# EAGLE library part ROOT1.H1.BOTH.PASSTHROUGH (library anomalousmaker)
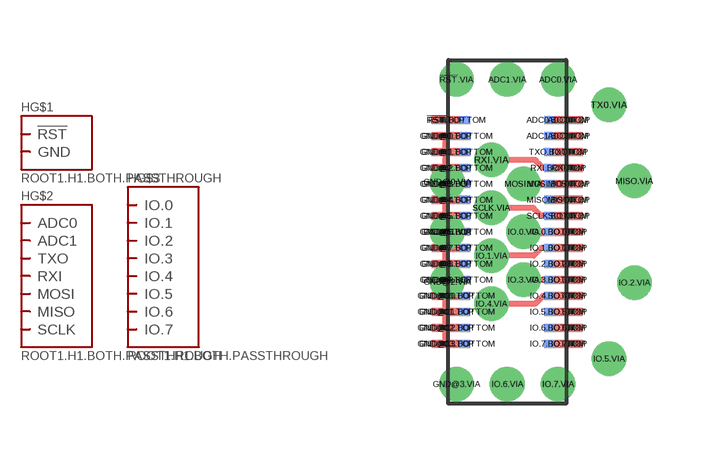
[diagram p0: symbol with the pads of ROOT1.H1.BOTH; footprint ROOT1.H1.BOTH]

Designator prefix H; gates G$1=ROOT1.H1.PWR G$2=ROOT1.H1.SERIAL G$3=ROOT1.H1.IO.8

## ROOT1.H1.BOTH.PASSTHROUGH  [ROOT1.H1.BOTH]
!RST!.BOTTOM  G$1:!RST!
!RST!.TOP  G$1:!RST!
!RST!.VIA  G$1:!RST!
ADC0.BOTTOM  G$2:ADC0
ADC0.TOP  G$2:ADC0
ADC0.VIA  G$2:ADC0
ADC1.BOTTOM  G$2:ADC1
ADC1.TOP  G$2:ADC1
ADC1.VIA  G$2:ADC1
GND@0.BOTTOM  G$1:GND
GND@0.TOP  G$1:GND
GND@0.VIA  G$1:GND
GND@1.BOTTOM  G$1:GND
GND@1.TOP  G$1:GND
GND@1.VIA  G$1:GND
GND@2.BOTTOM  G$1:GND
GND@2.TOP  G$1:GND
GND@2.VIA  G$1:GND
GND@3.BOTTOM  G$1:GND
GND@3.TOP  G$1:GND
GND@3.VIA  G$1:GND
GND@4.BOTTOM  G$1:GND
GND@4.TOP  G$1:GND
GND@5.BOTTOM  G$1:GND
GND@5.TOP  G$1:GND
GND@6.BOTTOM  G$1:GND
GND@6.TOP  G$1:GND
GND@7.BOTTOM  G$1:GND
GND@7.TOP  G$1:GND
GND@8.BOTTOM  G$1:GND
GND@8.TOP  G$1:GND
GND@9.BOTTOM  G$1:GND
GND@9.TOP  G$1:GND
GND@10.BOTTOM  G$1:GND
GND@10.TOP  G$1:GND
GND@11.BOTTOM  G$1:GND
GND@11.TOP  G$1:GND
GND@12.BOTTOM  G$1:GND
GND@12.TOP  G$1:GND
GND@13.BOTTOM  G$1:GND
GND@13.TOP  G$1:GND
IO.0.BOTTOM  G$3:IO.0
IO.0.TOP  G$3:IO.0
IO.0.VIA  G$3:IO.0
IO.1.BOTTOM  G$3:IO.1
IO.1.TOP  G$3:IO.1
IO.1.VIA  G$3:IO.1
IO.2.BOTTOM  G$3:IO.2
IO.2.TOP  G$3:IO.2
IO.2.VIA  G$3:IO.2
IO.3.BOTTOM  G$3:IO.3
IO.3.TOP  G$3:IO.3
IO.3.VIA  G$3:IO.3
IO.4.BOTTOM  G$3:IO.4
IO.4.TOP  G$3:IO.4
IO.4.VIA  G$3:IO.4
IO.5.BOTTOM  G$3:IO.5
IO.5.TOP  G$3:IO.5
IO.5.VIA  G$3:IO.5
IO.6.BOTTOM  G$3:IO.6
IO.6.TOP  G$3:IO.6
IO.6.VIA  G$3:IO.6
IO.7.BOTTOM  G$3:IO.7
IO.7.TOP  G$3:IO.7
IO.7.VIA  G$3:IO.7
MISO.BOTTOM  G$2:MISO
MISO.TOP  G$2:MISO
MISO.VIA  G$2:MISO
MOSI.BOTTOM  G$2:MOSI
MOSI.TOP  G$2:MOSI
MOSI.VIA  G$2:MOSI
RXI.BOTTOM  G$2:RXI
RXI.TOP  G$2:RXI
RXI.VIA  G$2:RXI
SCLK.BOTTOM  G$2:SCLK
SCLK.TOP  G$2:SCLK
SCLK.VIA  G$2:SCLK
TX0.VIA  G$2:TXO
TXO.BOTTOM  G$2:TXO
TXO.TOP  G$2:TXO

## Footprint ROOT1.H1.BOTH (pad centres in mm)
smd 0.66 x 0.2 bottom: !RST!.BOTTOM -1.255,2.8; ADC0.BOTTOM 1.255,2.8; ADC1.BOTTOM 1.255,2.4; GND@0.BOTTOM -1.255,2.4; GND@1.BOTTOM -1.255,2; GND@2.BOTTOM -1.255,1.6; GND@3.BOTTOM -1.255,1.2; GND@4.BOTTOM -1.255,0.8; GND@5.BOTTOM -1.255,0.4; GND@6.BOTTOM -1.255,0; GND@7.BOTTOM -1.255,-0.4; GND@8.BOTTOM -1.255,-0.8; GND@9.BOTTOM -1.255,-1.2; GND@10.BOTTOM -1.255,-1.6; GND@11.BOTTOM -1.255,-2; GND@12.BOTTOM -1.255,-2.4; GND@13.BOTTOM -1.255,-2.8; IO.0.BOTTOM 1.255,0; IO.1.BOTTOM 1.255,-0.4; IO.2.BOTTOM 1.255,-0.8; IO.3.BOTTOM 1.255,-1.2; IO.4.BOTTOM 1.255,-1.6; IO.5.BOTTOM 1.255,-2; IO.6.BOTTOM 1.255,-2.4; IO.7.BOTTOM 1.255,-2.8; MISO.BOTTOM 1.255,0.8; MOSI.BOTTOM 1.255,1.2; RXI.BOTTOM 1.255,1.6; SCLK.BOTTOM 1.255,0.4; TXO.BOTTOM 1.255,2
smd 0.7 x 0.2: !RST!.TOP -1.54,2.8; ADC0.TOP 1.54,2.8; ADC1.TOP 1.54,2.4; GND@0.TOP -1.54,2.4; GND@1.TOP -1.54,2; GND@2.TOP -1.54,1.6; GND@3.TOP -1.54,1.2; GND@4.TOP -1.54,0.8; GND@5.TOP -1.54,0.4; GND@6.TOP -1.54,0; GND@7.TOP -1.54,-0.4; GND@8.TOP -1.54,-0.8; GND@9.TOP -1.54,-1.2; GND@10.TOP -1.54,-1.6; GND@11.TOP -1.54,-2; GND@12.TOP -1.54,-2.4; GND@13.TOP -1.54,-2.8; IO.0.TOP 1.54,0; IO.1.TOP 1.54,-0.4; IO.2.TOP 1.54,-0.8; IO.3.TOP 1.54,-1.2; IO.4.TOP 1.54,-1.6; IO.5.TOP 1.54,-2; IO.6.TOP 1.54,-2.4; IO.7.TOP 1.54,-2.8; MISO.TOP 1.54,0.8; MOSI.TOP 1.54,1.2; RXI.TOP 1.54,1.6; SCLK.TOP 1.54,0.4; TXO.TOP 1.54,2
drill 0.356 pad 0.686: !RST!.VIA -1.27,3.81; ADC0.VIA 1.27,3.81; ADC1.VIA 0,3.81; GND@0.VIA -1.5,1.25; GND@1.VIA -1.5,0; GND@2.VIA -1.5,-1.25; GND@3.VIA -1.27,-3.81; IO.0.VIA 0.4,0; IO.1.VIA -0.4,-0.6; IO.2.VIA 3.175,-1.27; IO.3.VIA 0.4,-1.2; IO.4.VIA -0.4,-1.8; IO.5.VIA 2.54,-3.175; IO.6.VIA 0,-3.81; IO.7.VIA 1.27,-3.81; MISO.VIA 3.175,1.27; MOSI.VIA 0.4,1.2; RXI.VIA -0.4,1.8; SCLK.VIA -0.4,0.6; TX0.VIA 2.54,3.175